# Altium footprint library 1720420206.PcbLib: 1 footprints
Each footprint in its own frame and in the unit in brackets; x right, y up, seen from the top. Pads: shape width x height; smd on the part's side, far side on the other; paste and mask are expansions set on the pad; w line width, h text height; cw(c..) or ccw(c..) is an arc to the next point about the centre after c.
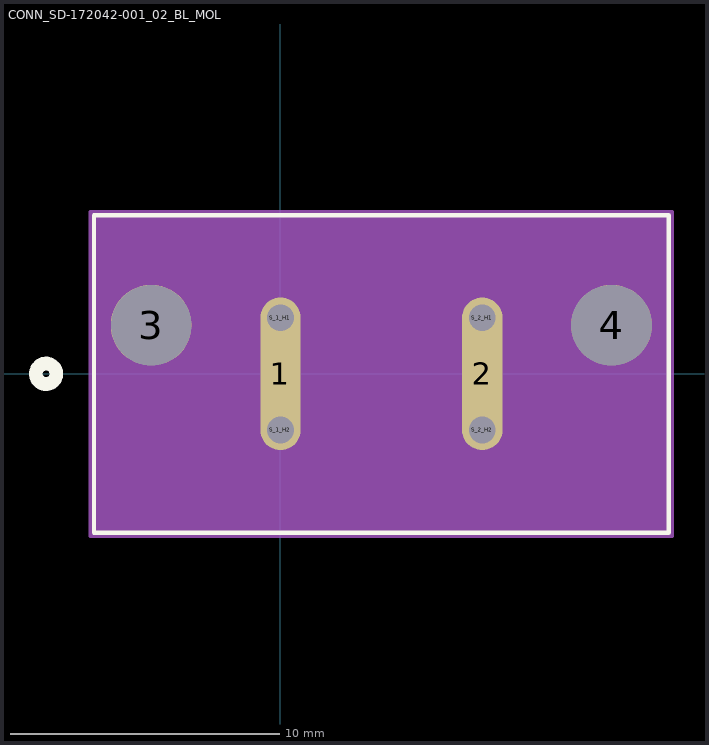
[diagram p0: the footprint, top view; thin cyan lines are the x and y axes]

## CONN_SD-172042-001_02_BL_MOL [mil]
pads (8):
  oval 59x223 smd paste+0 mask+0: 1(0,0) 2(294.88,0)
  round 118 / inner round 60 / far side round 118 hole 118 unplated paste-59 mask-59: 3(-188.98,71.06) 4(483.86,71.06)
  round 39 / inner round 60 / far side round 39 hole 39 unplated paste-19.5 mask-19.5: S_1_H1(0,82) S_1_H2(0,-82) S_2_H1(294.88,82) S_2_H2(294.88,-82)
Top Overlay:
  circle w20: c-342.56,0 r15
  lines w6: -272.56,-232.23 567.44,-232.23 567.44,231.77 -272.56,231.77 -272.56,-232.23
Bottom Overlay:
  circle w20: c-342.56,0 r15
Mechanical 13:
  circle w20: c0,75 r15
  lines w1: -267.56,-227.23 562.44,-227.23 562.44,226.77 -267.56,226.77 -267.56,-227.23
Mechanical 15:
  region: 572.44,236.77 -277.56,236.77 -277.56,-237.23 572.44,-237.23
  lines w6: -277.56,-237.23 -277.56,236.77 572.44,236.77 572.44,-237.23 -277.56,-237.23
Multi-Layer:
  lines w39: 0,-82 0,82 ; 294.88,-82 294.88,82